# EAGLE library part TXX0108 (library PP_DigitalIC)
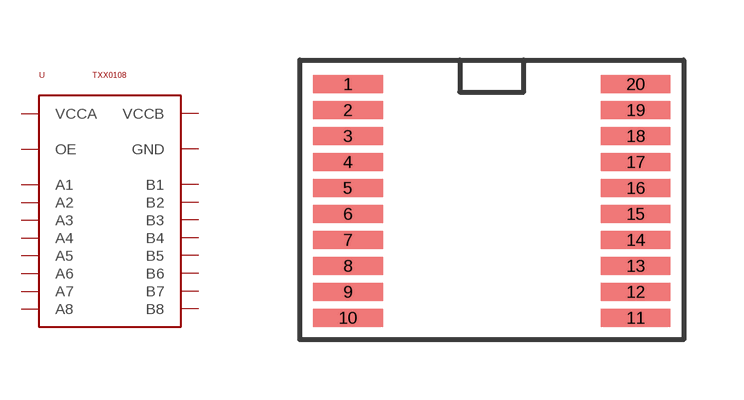
[diagram p21: symbol with the pads of TTSOP-20; footprint TTSOP-20]

Designator prefix U

## TXX0108TTSOP-20  [TTSOP-20]
1  A1
2  VCCA
3  A2
4  A3
5  A4
6  A5
7  A6
8  A7
9  A8
10  OE
11  GND
12  B8
13  B7
14  B6
15  B5
16  B4
17  B3
18  B2
19  VCCB
20  B1

## Footprint TTSOP-20 (pad centres in mm)
smd 1.75 x 0.45: 1 -3.6,2.6; 2 -3.6,1.95; 3 -3.6,1.3; 4 -3.6,0.65; 5 -3.6,0; 6 -3.6,-0.65; 7 -3.6,-1.3; 8 -3.6,-1.95; 9 -3.6,-2.6; 10 -3.6,-3.25; 11 3.6,-3.25; 12 3.6,-2.6; 13 3.6,-1.95; 14 3.6,-1.3; 15 3.6,-0.65; 16 3.6,0; 17 3.6,0.65; 18 3.6,1.3; 19 3.6,1.95; 20 3.6,2.6